# Altium schematic symbol library MF-MSMF050-2.SchLib: 1 symbol
Pins are listed as number, name and electrical type; pins without a type are passive.

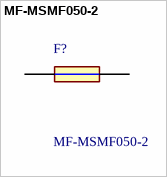
[diagram p0: symbol MF-MSMF050-2]

## MF-MSMF050-2
designator F?
Fuse, PTC, Resettable, SMD, 1812, 500mA Bourns 0.5A Surface Mount Resettable Fuse, 15 V; Mouser Part Number: 652-MF-MSMF050-2; Mouser Price/Stock: https://www.mouser.co.uk/ProductDetail/Bourns/MF-MSMF050-2?qs=t3shhpq1i1DZ7OBD5kLNoA%3D%3D; Manufacturer_Name: Bourns; Manufacturer_Part_Number: MF-MSMF050-2; Datasheet Link: https://www.bourns.com/pdfs/mfmsmf.pdf
footprint FUSC4632X85N
pins: 1, 2